# Altium footprint library trophee-rgb.PcbLib: 21 footprints (part 2 of 2)
Each footprint in its own frame and in the unit in brackets; x right, y up, seen from the top. Pads: shape width x height; smd on the part's side, far side on the other; paste and mask are expansions set on the pad; w line width, h text height; cw(c..) or ccw(c..) is an arc to the next point about the centre after c.
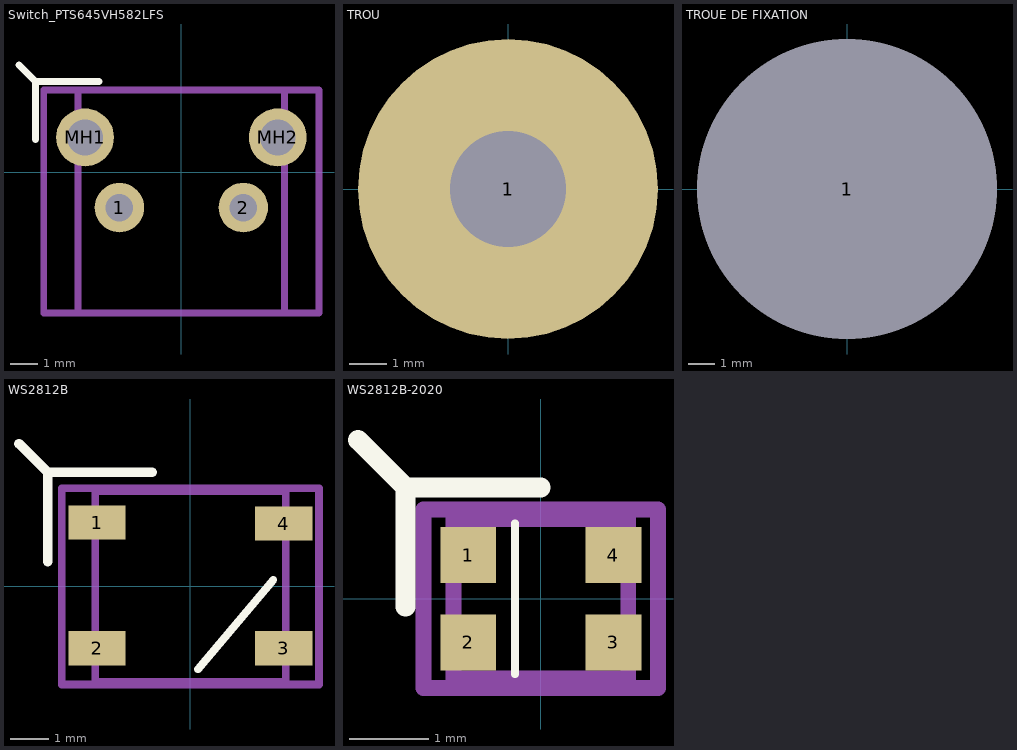
[diagram p1: the footprints below, top view; thin cyan lines are the x and y axes]

## Switch_PTS645VH582LFS [mm]
pads (4):
  round 1.8 hole 1: 1(-2.25,-1.275) 2(2.25,-1.275)
  round 2.1 hole 1.3: MH1(-3.5,1.275) MH2(3.5,1.275)
Top Overlay:
  lines w0.25: -5.9,3.9 -5.3,3.3 ; -5.3,1.2 -5.3,2.7 -5.3,3.3 ; -3,3.3 -4.7,3.3 -5.3,3.3 ; -5.3,3.3 -5.3,3.3
Top Assembly:
  lines w0.25: -3.75,-5.1 3.75,-5.1 3.75,3 -3.75,3 -3.75,-5.1
  text ".Designator" at -4.939,4.387 h1
Top Courtyard:
  lines w0.25: -5,-5.1 -5,3 5,3 5,-5.1 -5,-5.1
3D body "PTS645VH58-2LFS.sldprt": height 7.5, standoff -3.85, extent -4.247,-7.1 4.247,2.9

## TROU [mm]
pads (1):
  round 8 hole 3.1: 1(0,0)
Top Courtyard:
  circle w0.1: c0,0 r2.25

## TROUE DE FIXATION [mm]
pads (1):
  oval 11.4x11.3 hole 11.4 unplated: 1(0,0)

## WS2812B [mm] "Leds rgb"
pads (4):
  rect 1.5x0.9 smd: 1(-2.45,1.675) 2(-2.45,-1.625) 3(2.45,-1.625) 4(2.45,1.65)
Top Overlay:
  lines w0.2: 0.2,-2.175 2.175,0.175
  lines w0.25: -4.5,3.75 -3.75,3 ; -3.75,0.65 -3.75,2.25 -3.75,3 ; -1,3 -3,3 -3.75,3
Top Assembly:
  lines w0.2: -2.5,-2.5 -2.5,2.5 2.5,2.5 2.5,-2.5 -2.5,-2.5
  text ".Designator" at -4.95,3.208 h1
Top Courtyard:
  lines w0.2: -3.375,-2.575 -3.375,2.575 -2.125,2.575 3.375,2.575 3.375,-2.575 -3.375,-2.575
3D body "User Library-WS2812B.SLDPRT": height 1.5, standoff -0.2, extent -2.7,-2.5 2.7,2.5

## WS2812B-2020 [mm] "Leds rgb"
pads (4):
  rect 0.7x0.7 smd: 1(-0.915,0.55) 2(-0.915,-0.55) 3(0.915,-0.55) 4(0.915,0.55)
Top Overlay:
  lines w0.1: -0.325,-0.95 -0.325,0.95
  lines w0.25: -2.3,2 -1.7,1.4 ; -1.7,-0.1 -1.7,0.8 -1.7,1.4 ; 0,1.4 -1.1,1.4 -1.7,1.4
Top Assembly:
  lines w0.2: -1.1,-1 -1.1,1 1.1,1 1.1,-1 -1.1,-1
  text ".Designator" at -4.925,1.733 h1
Top Courtyard:
  lines w0.2: -1.475,-1.125 -1.475,1.125 -0.675,1.125 1.475,1.125 1.475,-1.125 -1.475,-1.125
3D body "User Library-WS2812-2020.sldprt": height 0.84, standoff 0, extent -1.1,-1 1.1,1